# Altium footprint library #10Hole.PcbLib: 1 footprints
Each footprint in its own frame and in the unit in brackets; x right, y up, seen from the top. Pads: shape width x height; smd on the part's side, far side on the other; paste and mask are expansions set on the pad; w line width, h text height; cw(c..) or ccw(c..) is an arc to the next point about the centre after c.
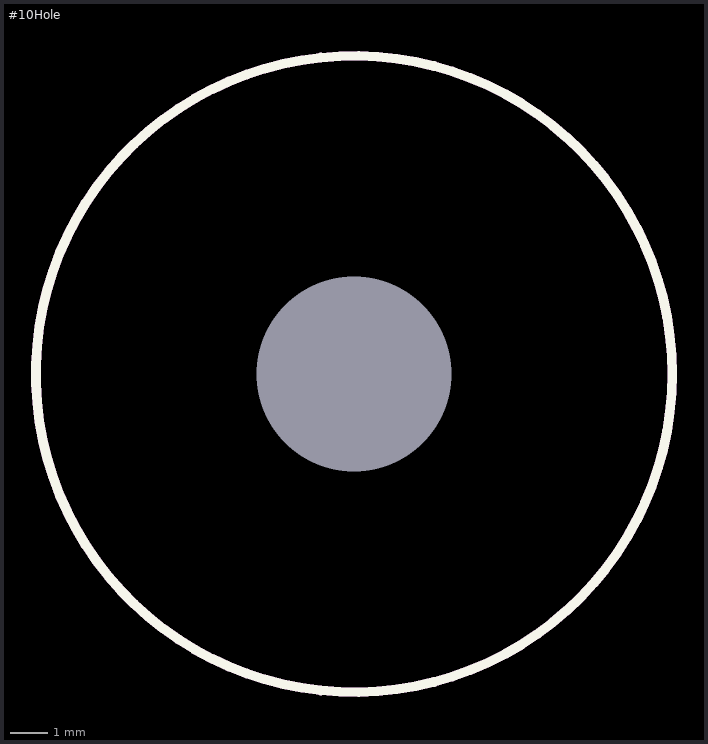
[diagram p0: the footprint, top view; thin cyan lines are the x and y axes]

## #10Hole [mil]
pads (1):
  round 0 hole 202.76 unplated mask+78.74: 1(690,535)
Top Overlay:
  circle w10: c690,535 r330
Keep-Out Layer:
  circle w10: c690,535 r330